# Altium schematic symbol library 2P2Sxfmr.Schlib: 1 symbol
Pins are listed as number, name and electrical type; pins without a type are passive.

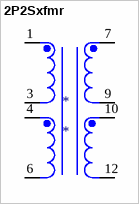
[diagram p0: symbol 2P2Sxfmr]

## 2P2Sxfmr
designator *
pins: 1 PRIMARY1, 3, 4, 6, 7, 9, 10, 12